# Altium footprint library AT24C512C-MAHM-T.PcbLib: 3 footprints
Each footprint in its own frame and in the unit in brackets; x right, y up, seen from the top. Pads: shape width x height; smd on the part's side, far side on the other; paste and mask are expansions set on the pad; w line width, h text height; cw(c..) or ccw(c..) is an arc to the next point about the centre after c.
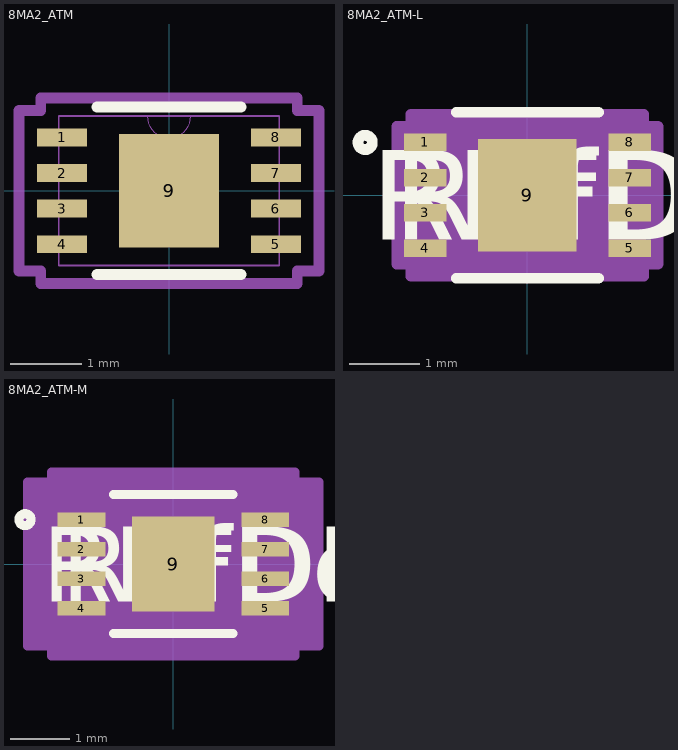
[diagram p0: the footprints below, top view; thin cyan lines are the x and y axes]

## 8MA2_ATM [mm]
pads (9):
  rect 0.705x0.249 smd paste+0 mask+0: 1(-1.502,0.75) 2(-1.502,0.25) 3(-1.502,-0.25) 4(-1.502,-0.75) 5(1.502,-0.75) 6(1.502,-0.25) 7(1.502,0.25) 8(1.502,0.75)
  rect 1.4x1.6 smd paste+0 mask+0: 9(0,0)
Top Overlay:
  lines w0.152: -1.011,-1.177 1.011,-1.177 ; -1.011,1.177 1.011,1.177
Mechanical 13:
  lines w0: -0.305,1.05 ccw(c0,1.05) 0.305,1.05
  lines w0.025: -1.55,-1.05 1.55,-1.05 1.55,1.05 -1.55,1.05 -1.55,-1.05
Mechanical 15:
  lines w0.152: -2.109,-1.129 -2.109,1.129 -1.804,1.129 -1.804,1.304 1.804,1.304 1.804,1.129 2.109,1.129 2.109,-1.129 1.804,-1.129 1.804,-1.304 -1.804,-1.304 -1.804,-1.129 -2.109,-1.129
3D body "8MA2_ATM.step": height 0.6, standoff 0, extent -1.55,-1.05 1.55,1.05

## 8MA2_ATM-L [mm]
pads (9):
  rect 0.603x0.249 smd paste+0 mask+0: 1(-1.452,0.75) 2(-1.452,0.25) 3(-1.452,-0.25) 4(-1.452,-0.75) 5(1.452,-0.75) 6(1.452,-0.25) 7(1.452,0.25) 8(1.452,0.75)
  rect 1.4x1.6 smd paste+0 mask+0: 9(0,0)
Top Overlay:
  circle w0.152: c-2.304,0.75 r0.102
  lines w0.152: -1.011,-1.177 1.011,-1.177 ; -1.011,1.177 1.011,1.177
  text "RefDes" at -1.905,-0.635 h1.27
  text "REFDES" at -2.222,-0.635 h1.27
Mechanical 13:
  circle w0: c-1.15,0.75 r0.076
  lines w0: -0.305,1.05 ccw(c0,1.05) 0.305,1.05
  lines w0.025: -1.55,-1.05 1.55,-1.05 1.55,1.05 -1.55,1.05 -1.55,-1.05
  text "RefDes2" at -2.222,-0.635 h1.27
Mechanical 15:
  region: -1.652,-0.976 -1.855,-0.976 -1.855,0.976 -1.652,0.976 -1.652,1.152 1.652,1.152 1.652,0.976 1.855,0.976 1.855,-0.976 1.652,-0.976 1.652,-1.152 -1.652,-1.152
  lines w0.152: -1.855,-0.976 -1.855,0.976 -1.652,0.976 -1.652,1.152 1.652,1.152 1.652,0.976 1.855,0.976 1.855,-0.976 1.652,-0.976 1.652,-1.152 -1.652,-1.152 -1.652,-0.976 -1.855,-0.976
3D body "8MA2_ATM.step": height 0.6, standoff 0, extent -1.55,-1.05 1.55,1.05

## 8MA2_ATM-M [mm]
pads (9):
  rect 0.806x0.249 smd paste+0 mask+0: 1(-1.553,0.75) 2(-1.553,0.25) 3(-1.553,-0.25) 4(-1.553,-0.75) 5(1.553,-0.75) 6(1.553,-0.25) 7(1.553,0.25) 8(1.553,0.75)
  rect 1.4x1.6 smd paste+0 mask+0: 9(0,0)
Top Overlay:
  circle w0.152: c-2.507,0.75 r0.102
  lines w0.152: -1.011,-1.177 1.011,-1.177 ; -1.011,1.177 1.011,1.177
  text "RefDes" at -1.905,-0.635 h1.27
  text "REFDES" at -2.222,-0.635 h1.27
Mechanical 13:
  circle w0: c-1.15,0.75 r0.076
  lines w0: -0.305,1.05 ccw(c0,1.05) 0.305,1.05
  lines w0.025: -1.55,-1.05 1.55,-1.05 1.55,1.05 -1.55,1.05 -1.55,-1.05
  text "RefDes2" at -2.222,-0.635 h1.27
Mechanical 15:
  region: -2.058,-1.383 -2.464,-1.383 -2.464,1.383 -2.058,1.383 -2.058,1.558 2.058,1.558 2.058,1.383 2.464,1.383 2.464,-1.383 2.058,-1.383 2.058,-1.558 -2.058,-1.558
  lines w0.152: -2.464,-1.383 -2.464,1.383 -2.058,1.383 -2.058,1.558 2.058,1.558 2.058,1.383 2.464,1.383 2.464,-1.383 2.058,-1.383 2.058,-1.558 -2.058,-1.558 -2.058,-1.383 -2.464,-1.383
3D body "8MA2_ATM.step": height 0.6, standoff 0, extent -1.55,-1.05 1.55,1.05